# Altium footprint library rp3a0.PcbLib: 2 footprints
Each footprint in its own frame and in the unit in brackets; x right, y up, seen from the top. Pads: shape width x height; smd on the part's side, far side on the other; paste and mask are expansions set on the pad; w line width, h text height; cw(c..) or ccw(c..) is an arc to the next point about the centre after c.
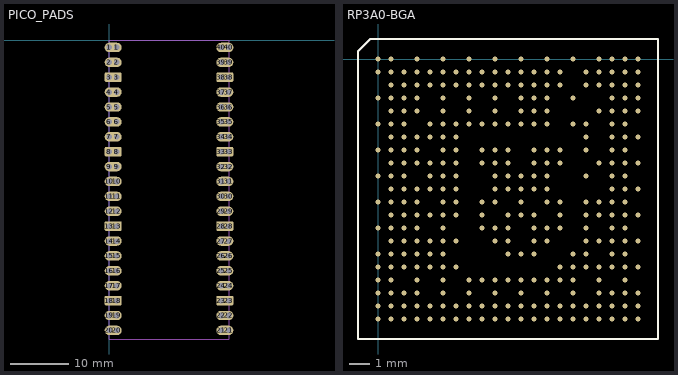
[diagram p0: the footprints below, top view; thin cyan lines are the x and y axes]

## PICO_PADS [mil]
pads (80):
  oval 113.5x63.5 / inner round 38.4 / far side oval 113.5x63.5 hole 37.4 copper offset 25,0: 1(0,-50) 2(0,-150) 4(0,-350) 5(0,-450) 6(0,-550) 7(0,-650) 9(0,-850) 10(0,-950) 11(0,-1050) 12(0,-1150) 14(0,-1350) 15(0,-1450) 16(0,-1550) 17(0,-1650) 19(0,-1850) 20(0,-1950) 21(750,-1950) 22(750,-1850) 24(750,-1650) 25(750,-1550) 26(750,-1450) 27(750,-1350) 29(750,-1150) 30(750,-1050) 31(750,-950) 32(750,-850) 34(750,-650) 35(750,-550) 36(750,-450) 37(750,-350) 39(750,-150) 40(750,-50)
  oval 113.5x63.5 / inner round 38.4 / far side oval 113.5x63.5 hole 37.4 copper offset -25,0: 1(50,-50) 2(50,-150) 4(50,-350) 5(50,-450) 6(50,-550) 7(50,-650) 9(50,-850) 10(50,-950) 11(50,-1050) 12(50,-1150) 14(50,-1350) 15(50,-1450) 16(50,-1550) 17(50,-1650) 19(50,-1850) 20(50,-1950) 21(800,-1950) 22(800,-1850) 24(800,-1650) 25(800,-1550) 26(800,-1450) 27(800,-1350) 29(800,-1150) 30(800,-1050) 31(800,-950) 32(800,-850) 34(800,-650) 35(800,-550) 36(800,-450) 37(800,-350) 39(800,-150) 40(800,-50)
  rrect25% 113.5x63.5 / inner round 38.4 / far side rrect25% 113.5x63.5 hole 37.4 copper offset 25,0: 3(0,-250) 8(0,-750) 13(0,-1250) 18(0,-1750) 23(750,-1750) 28(750,-1250) 33(750,-750) 38(750,-250)
  rrect25% 113.5x63.5 / inner round 38.4 / far side rrect25% 113.5x63.5 hole 37.4 copper offset -25,0: 3(50,-250) 8(50,-750) 13(50,-1250) 18(50,-1750) 23(800,-1750) 28(800,-1250) 33(800,-750) 38(800,-250)
Mid Layer 1:
  drawing of 80 lines, arcs and shapes, not listed
Mid Layer 2:
  drawing of 80 lines, arcs and shapes, not listed
Mid Layer 3:
  drawing of 80 lines, arcs and shapes, not listed
Mid Layer 4:
  drawing of 80 lines, arcs and shapes, not listed
Mechanical 1:
  lines w7.87: 0,-2007.87 800,-2007.87 800,0 0,0 0,-2007.87

## RP3A0-BGA [mm]
pads (323):
  round 0.25 smd: A1(0,0) A2(0.65,0) A4(1.95,0) A6(3.25,0) A8(4.55,0) A10(5.85,0) A12(7.15,0) A14(8.45,0) A16(9.75,0) A18(11.05,0) A19(11.7,0) A20(12.35,0) A21(13,0) AA1(0,-13) AA2(0.65,-13) AA3(1.3,-13) AA4(1.95,-13) AA5(2.6,-13) AA6(3.25,-13) AA7(3.9,-13) AA8(4.55,-13) AA9(5.2,-13) AA10(5.85,-13) AA11(6.5,-13) AA12(7.15,-13) AA13(7.8,-13) AA14(8.45,-13) AA15(9.1,-13) AA16(9.75,-13) AA17(10.4,-13) AA18(11.05,-13) AA19(11.7,-13) AA20(12.35,-13) AA21(13,-13) B1(0,-0.65) B2(0.65,-0.65) B3(1.3,-0.65) B4(1.95,-0.65) B5(2.6,-0.65) B6(3.25,-0.65) B7(3.9,-0.65) B8(4.55,-0.65) B9(5.2,-0.65) B10(5.85,-0.65) B11(6.5,-0.65) B12(7.15,-0.65) B13(7.8,-0.65) B14(8.45,-0.65) B15(9.1,-0.65) B17(10.4,-0.65) B18(11.05,-0.65) B19(11.7,-0.65) B20(12.35,-0.65) B21(13,-0.65) C2(0.65,-1.3) C3(1.3,-1.3) C4(1.95,-1.3) C5(2.6,-1.3) C6(3.25,-1.3) C7(3.9,-1.3) C8(4.55,-1.3) C9(5.2,-1.3) C10(5.85,-1.3) C11(6.5,-1.3) C12(7.15,-1.3) C13(7.8,-1.3) C14(8.45,-1.3) C15(9.1,-1.3) C17(10.4,-1.3) C18(11.05,-1.3) C19(11.7,-1.3) C20(12.35,-1.3) C21(13,-1.3) D1(0,-1.95) D2(0.65,-1.95) D3(1.3,-1.95) D4(1.95,-1.95) D6(3.25,-1.95) D8(4.55,-1.95) D10(5.85,-1.95) D12(7.15,-1.95) D13(7.8,-1.95) D14(8.45,-1.95) D16(9.75,-1.95) D19(11.7,-1.95) D20(12.35,-1.95) D21(13,-1.95) E2(0.65,-2.6) E3(1.3,-2.6) E4(1.95,-2.6) E6(3.25,-2.6) E8(4.55,-2.6) E10(5.85,-2.6) E12(7.15,-2.6) E13(7.8,-2.6) E14(8.45,-2.6) E18(11.05,-2.6) E19(11.7,-2.6) E20(12.35,-2.6) E21(13,-2.6) F1(0,-3.25) F2(0.65,-3.25) F3(1.3,-3.25) F5(2.6,-3.25) F6(3.25,-3.25) F7(3.9,-3.25) F8(4.55,-3.25) F9(5.2,-3.25) F10(5.85,-3.25) F11(6.5,-3.25) F12(7.15,-3.25) F13(7.8,-3.25) F14(8.45,-3.25) F16(9.75,-3.25) F17(10.4,-3.25) F19(11.7,-3.25) F20(12.35,-3.25) G2(0.65,-3.9) G3(1.3,-3.9) G4(1.95,-3.9) G5(2.6,-3.9) G6(3.25,-3.9) G7(3.9,-3.9) G17(10.4,-3.9) G19(11.7,-3.9) G20(12.35,-3.9) G21(13,-3.9) H1(0,-4.55) H2(0.65,-4.55) H3(1.3,-4.55) H4(1.95,-4.55) H6(3.25,-4.55) H7(3.9,-4.55) H9(5.2,-4.55) H10(5.85,-4.55) H11(6.5,-4.55) H13(7.8,-4.55) H14(8.45,-4.55) H15(9.1,-4.55) H17(10.4,-4.55) H19(11.7,-4.55) H20(12.35,-4.55) J2(0.65,-5.2) J3(1.3,-5.2) J4(1.95,-5.2) J5(2.6,-5.2) J6(3.25,-5.2) J7(3.9,-5.2) J9(5.2,-5.2) J10(5.85,-5.2) J11(6.5,-5.2) J13(7.8,-5.2) J14(8.45,-5.2) J15(9.1,-5.2) J18(11.05,-5.2) J19(11.7,-5.2) J20(12.35,-5.2) J21(13,-5.2) K1(0,-5.85) K2(0.65,-5.85) K3(1.3,-5.85) K5(2.6,-5.85) K6(3.25,-5.85) K7(3.9,-5.85) K10(5.85,-5.85) K11(6.5,-5.85) K12(7.15,-5.85) K13(7.8,-5.85) K14(8.45,-5.85) K17(10.4,-5.85) K19(11.7,-5.85) K20(12.35,-5.85) L2(0.65,-6.5) L3(1.3,-6.5) L4(1.95,-6.5) L5(2.6,-6.5) L6(3.25,-6.5) L7(3.9,-6.5) L10(5.85,-6.5) L11(6.5,-6.5) L12(7.15,-6.5) L13(7.8,-6.5) L14(8.45,-6.5) L19(11.7,-6.5) L20(12.35,-6.5) L21(13,-6.5) M1(0,-7.15) M2(0.65,-7.15) M3(1.3,-7.15) M4(1.95,-7.15) M6(3.25,-7.15) M7(3.9,-7.15) M9(5.2,-7.15) M10(5.85,-7.15) M12(7.15,-7.15) M14(8.45,-7.15) M15(9.1,-7.15) M17(10.4,-7.15) M18(11.05,-7.15) M19(11.7,-7.15) M20(12.35,-7.15) N2(0.65,-7.8) N3(1.3,-7.8) N4(1.95,-7.8) N5(2.6,-7.8) N6(3.25,-7.8) N7(3.9,-7.8) N9(5.2,-7.8) N11(6.5,-7.8) N12(7.15,-7.8) N13(7.8,-7.8) N15(9.1,-7.8) N17(10.4,-7.8) N18(11.05,-7.8) N19(11.7,-7.8) N20(12.35,-7.8) N21(13,-7.8) P1(0,-8.45) P2(0.65,-8.45) P3(1.3,-8.45) P4(1.95,-8.45) P6(3.25,-8.45) P9(5.2,-8.45) P10(5.85,-8.45) P11(6.5,-8.45) P13(7.8,-8.45) P14(8.45,-8.45) P15(9.1,-8.45) P17(10.4,-8.45) P19(11.7,-8.45) P20(12.35,-8.45) R2(0.65,-9.1) R3(1.3,-9.1) R4(1.95,-9.1) R5(2.6,-9.1) R6(3.25,-9.1) R7(3.9,-9.1) R10(5.85,-9.1) R11(6.5,-9.1) R13(7.8,-9.1) R14(8.45,-9.1) R17(10.4,-9.1) R18(11.05,-9.1) R19(11.7,-9.1) R20(12.35,-9.1) R21(13,-9.1) T1(0,-9.75) T2(0.65,-9.75) T3(1.3,-9.75) T4(1.95,-9.75) T5(2.6,-9.75) T6(3.25,-9.75) T11(6.5,-9.75) T12(7.15,-9.75) T13(7.8,-9.75) T16(9.75,-9.75) T17(10.4,-9.75) T19(11.7,-9.75) T20(12.35,-9.75) U1(0,-10.4) U2(0.65,-10.4) U3(1.3,-10.4) U4(1.95,-10.4) U5(2.6,-10.4) U6(3.25,-10.4) U7(3.9,-10.4) U15(9.1,-10.4) U16(9.75,-10.4) U17(10.4,-10.4) U18(11.05,-10.4) U19(11.7,-10.4) U20(12.35,-10.4) U21(13,-10.4) V1(0,-11.05) V2(0.65,-11.05) V4(1.95,-11.05) V6(3.25,-11.05) V8(4.55,-11.05) V9(5.2,-11.05) V10(5.85,-11.05) V11(6.5,-11.05) V12(7.15,-11.05) V13(7.8,-11.05) V14(8.45,-11.05) V15(9.1,-11.05) V16(9.75,-11.05) V18(11.05,-11.05) V20(12.35,-11.05) W1(0,-11.7) W2(0.65,-11.7) W3(1.3,-11.7) W4(1.95,-11.7) W6(3.25,-11.7) W8(4.55,-11.7) W10(5.85,-11.7) W12(7.15,-11.7) W14(8.45,-11.7) W16(9.75,-11.7) W18(11.05,-11.7) W19(11.7,-11.7) W20(12.35,-11.7) W21(13,-11.7) Y1(0,-12.35) Y2(0.65,-12.35) Y3(1.3,-12.35) Y4(1.95,-12.35) Y5(2.6,-12.35) Y6(3.25,-12.35) Y7(3.9,-12.35) Y8(4.55,-12.35) Y9(5.2,-12.35) Y10(5.85,-12.35) Y11(6.5,-12.35) Y12(7.15,-12.35) Y13(7.8,-12.35) Y14(8.45,-12.35) Y15(9.1,-12.35) Y16(9.75,-12.35) Y17(10.4,-12.35) Y18(11.05,-12.35) Y19(11.7,-12.35) Y20(12.35,-12.35) Y21(13,-12.35)
Top Overlay:
  lines w0.102: -1,-14 14,-14 14,1 -0.397,1 -1,0.397 -1,-14
3D body: height 1.2, standoff 0, extent -1,-14 14,1